# Altium schematic symbol library MCP1825S-5002E_DB.SchLib: 1 symbol
Pins are listed as number, name and electrical type; pins without a type are passive.

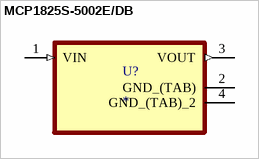
[diagram p0: symbol MCP1825S-5002E/DB]

## MCP1825S-5002E/DB
designator U?
MP: MCP1825S-5002E/DB; MF: {'manufacturer': u'Microchip'}; Availability: Unavailable; Value: *; Package: None; Price: None
footprint SOT230P700X180-4N
pins: 1 VIN (in), 2 GND_(TAB) (power), 3 VOUT (out), 4 GND_(TAB)_2 (power)